# Altium footprint library ESP32_WROOM.PcbLib: 1 footprints
Each footprint in its own frame and in the unit in brackets; x right, y up, seen from the top. Pads: shape width x height; smd on the part's side, far side on the other; paste and mask are expansions set on the pad; w line width, h text height; cw(c..) or ccw(c..) is an arc to the next point about the centre after c.
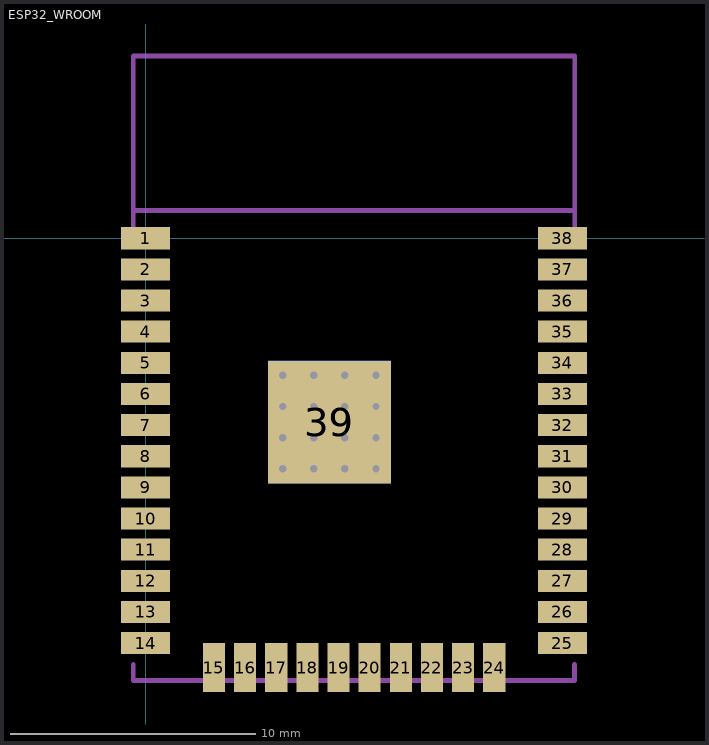
[diagram p0: the footprint, top view; thin cyan lines are the x and y axes]

## ESP32_WROOM [mm]
pads (40):
  rect 2x0.9 smd: 1(0,0) 2(0,-1.27) 3(0,-2.54) 4(0,-3.81) 5(0,-5.08) 6(0,-6.35) 7(0,-7.62) 8(0,-8.89) 9(0,-10.16) 10(0,-11.43) 11(0,-12.7) 12(0,-13.97) 13(0,-15.24) 14(0,-16.51) 25(17,-16.51) 26(17,-15.24) 27(17,-13.97) 28(17,-12.7) 29(17,-11.43) 30(17,-10.16) 31(17,-8.89) 32(17,-7.62) 33(17,-6.35) 34(17,-5.08) 35(17,-3.81) 36(17,-2.54) 37(17,-1.27) 38(17,0)
  rect 0.9x2 smd: 15(2.79,-17.51) 16(4.06,-17.51) 17(5.33,-17.51) 18(6.6,-17.51) 19(7.87,-17.51) 20(9.14,-17.51) 21(10.41,-17.51) 22(11.68,-17.51) 23(12.95,-17.51) 24(14.22,-17.51)
  rect 5x5 smd: 39(7.5,-7.5)
  rect 5x5 smd far side: 39(7.5,-7.5)
via 5.588,-5.588 diameter 0.6 hole 0.3
via 6.858,-5.588 diameter 0.6 hole 0.3
via 8.128,-5.588 diameter 0.6 hole 0.3
via 9.398,-5.588 diameter 0.6 hole 0.3
via 9.398,-6.858 diameter 0.6 hole 0.3
via 8.128,-6.858 diameter 0.6 hole 0.3
via 6.858,-6.858 diameter 0.6 hole 0.3
via 5.588,-6.858 diameter 0.6 hole 0.3
via 5.588,-8.128 diameter 0.6 hole 0.3
via 6.858,-8.128 diameter 0.6 hole 0.3
via 8.128,-8.128 diameter 0.6 hole 0.3
via 9.398,-8.128 diameter 0.6 hole 0.3
via 9.398,-9.398 diameter 0.6 hole 0.3
via 8.128,-9.398 diameter 0.6 hole 0.3
via 6.858,-9.398 diameter 0.6 hole 0.3
via 5.588,-9.398 diameter 0.6 hole 0.3
Mechanical 1:
  lines w0.2: -0.503,-17.384 -0.503,-18.034 17.497,-18.034 17.497,-17.384 ; -0.5,0.49 -0.5,7.44 17.5,7.44 17.5,0.49 ; -0.5,1.14 17.5,1.14
3D body "ESP32 - WROOM - 32.x_t": height 2.86, standoff 0, extent -0.5,-18.009 17.5,7.491